# Altium integrated library NXP_60_26022015.IntLib: 1306 symbols (part 5 of 28)
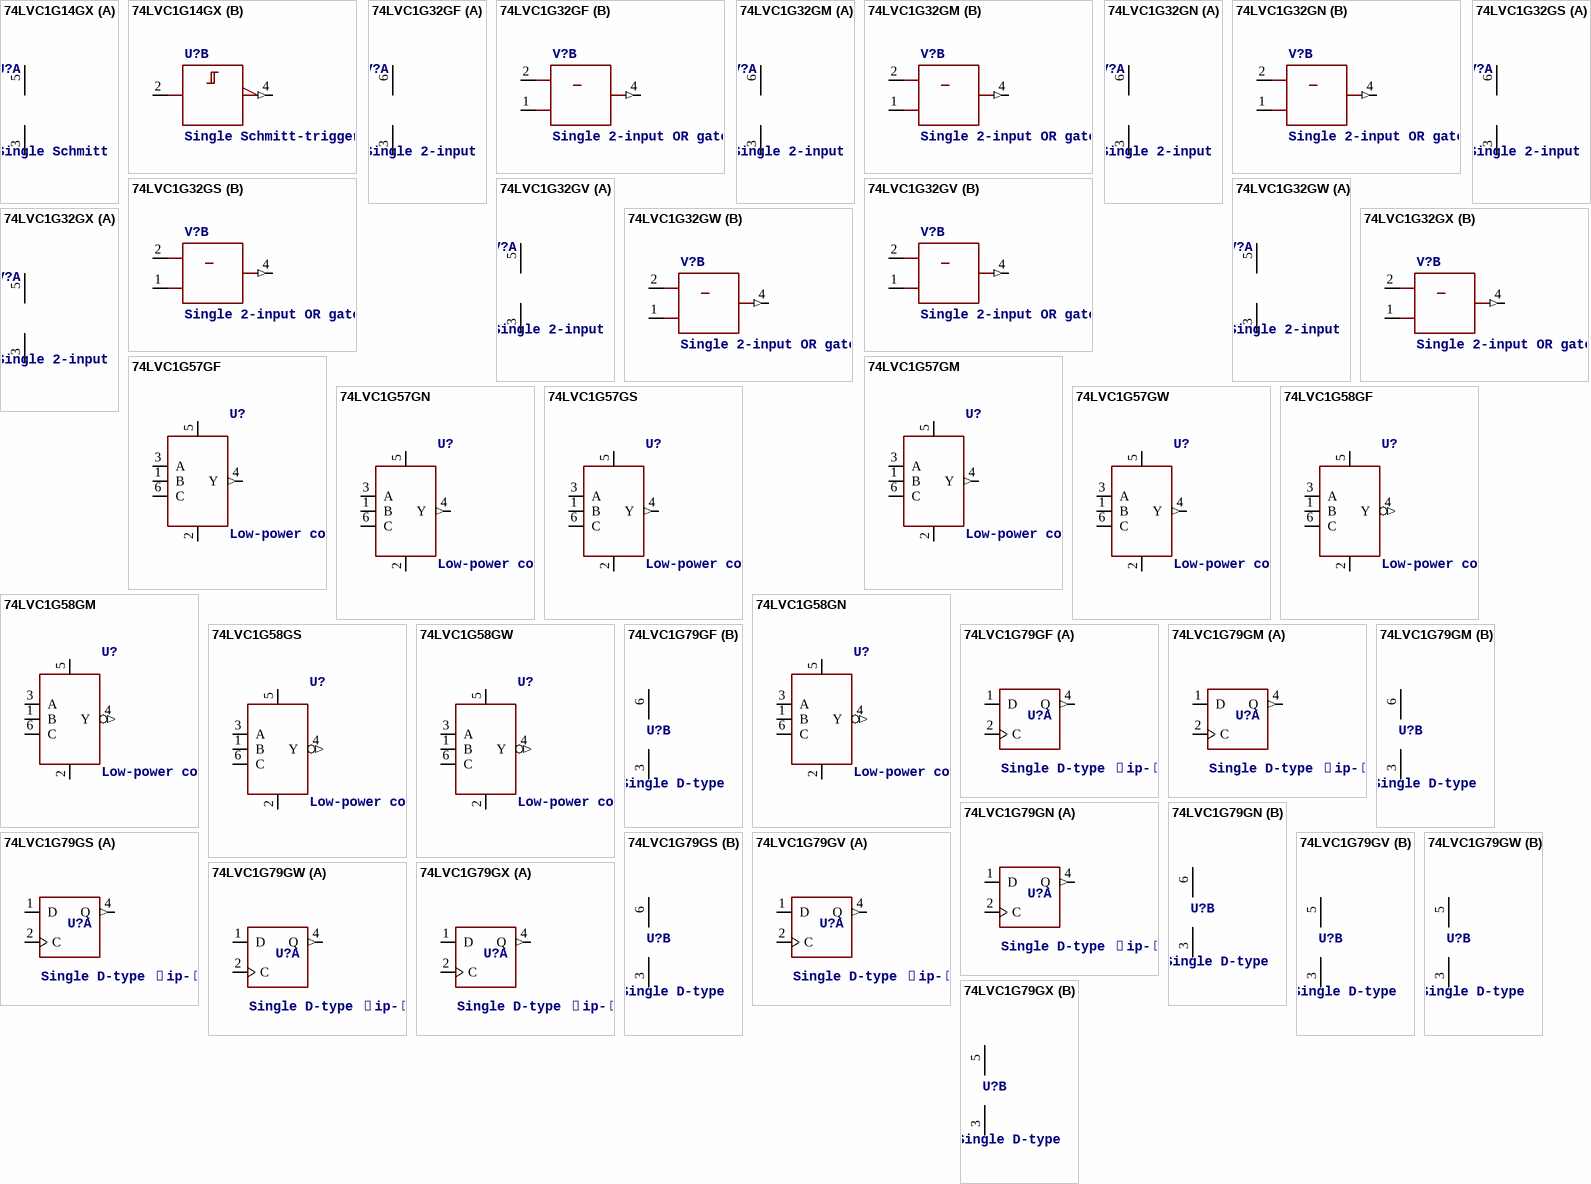
[diagram p189: symbols 74LVC1G14GX to 74LVC1G79GX]

## 74LVC1G58GS
designator U?, comment Low-power configurable multiple function gate The 74LVC1G58 provides configurable multiple functions. The output state is determined by eight patterns of 3-bit input. The user can choose the logic functions AND, OR, NAND, NOR, XOR, inverter and buffer. All inputs can be connected to VCC or GND. Inputs can be driven from either 3.3 V or 5 V devices. This feature allows the use of this device in a mixed 3.3 V and 5 V environment. This device is fully specified for partial power-down applications using IOFF. The IOFF circuitry disables the output, preventing the damaging backflow current through the device when it is powered down. All inputs (A, B and C) are Schmitt trigger inputs. They are capable of transforming slowly changing input signals into sharply defined, jitter-free output signals.   AAL Eindhoven MK
12NC: 9352 928 68132
footprint SOT1202
pins: 1 B, 2 GND (power), 3 A, 4 Y (out), 5 VCC (power), 6 C

## 74LVC1G58GW
designator U?, comment Low-power configurable multiple function gate The 74LVC1G58 provides configurable multiple functions. The output state is determined by eight patterns of 3-bit input. The user can choose the logic functions AND, OR, NAND, NOR, XOR, inverter and buffer. All inputs can be connected to VCC or GND. Inputs can be driven from either 3.3 V or 5 V devices. This feature allows the use of this device in a mixed 3.3 V and 5 V environment. This device is fully specified for partial power-down applications using IOFF. The IOFF circuitry disables the output, preventing the damaging backflow current through the device when it is powered down. All inputs (A, B and C) are Schmitt trigger inputs. They are capable of transforming slowly changing input signals into sharply defined, jitter-free output signals.   AAL Eindhoven MK
12NC: 9352 799 59125
footprint SOT363
pins: 1 B, 2 GND (power), 3 A, 4 Y (out), 5 VCC (power), 6 C

## 74LVC1G79GF
designator U?, comment Single D-type ﬂip-ﬂop; positive-edge trigger The 74LVC1G79 provides a single positive-edge triggered D-type flip-flop. Information on the data input is transferred to the Q-output on the LOW-to-HIGH transition of the clock pulse. The D-input must be stable one set-up time prior to the LOW-to-HIGH clock transition for predictable operation. Inputs can be driven from either 3.3 V or 5 V devices. This feature allows the use of this device in a mixed 3.3 V and 5 V environment. This device is fully specified for partial power-down applications using IOFF. The IOFF circuitry disables the output, preventing the damaging backflow current through the device when it is powered down.    AAL Eindhoven MK
footprint SOT891
part A pins: 1 D, 2 C, 4 Q (out)
part B pins: 3 GND (power), 6 VCC (power)

## 74LVC1G79GM
designator U?, comment Single D-type ﬂip-ﬂop; positive-edge trigger The 74LVC1G79 provides a single positive-edge triggered D-type flip-flop. Information on the data input is transferred to the Q-output on the LOW-to-HIGH transition of the clock pulse. The D-input must be stable one set-up time prior to the LOW-to-HIGH clock transition for predictable operation. Inputs can be driven from either 3.3 V or 5 V devices. This feature allows the use of this device in a mixed 3.3 V and 5 V environment. This device is fully specified for partial power-down applications using IOFF. The IOFF circuitry disables the output, preventing the damaging backflow current through the device when it is powered down.    AAL Eindhoven MK
footprint SOT886
part A pins: 1 D, 2 C, 4 Q (out)
part B pins: 3 GND (power), 6 VCC (power)

## 74LVC1G79GN
designator U?, comment Single D-type ﬂip-ﬂop; positive-edge trigger The 74LVC1G79 provides a single positive-edge triggered D-type flip-flop. Information on the data input is transferred to the Q-output on the LOW-to-HIGH transition of the clock pulse. The D-input must be stable one set-up time prior to the LOW-to-HIGH clock transition for predictable operation. Inputs can be driven from either 3.3 V or 5 V devices. This feature allows the use of this device in a mixed 3.3 V and 5 V environment. This device is fully specified for partial power-down applications using IOFF. The IOFF circuitry disables the output, preventing the damaging backflow current through the device when it is powered down.    AAL Eindhoven MK
footprint SOT1115
part A pins: 1 D, 2 C, 4 Q (out)
part B pins: 3 GND (power), 6 VCC (power)

## 74LVC1G79GS
designator U?, comment Single D-type ﬂip-ﬂop; positive-edge trigger The 74LVC1G79 provides a single positive-edge triggered D-type flip-flop. Information on the data input is transferred to the Q-output on the LOW-to-HIGH transition of the clock pulse. The D-input must be stable one set-up time prior to the LOW-to-HIGH clock transition for predictable operation. Inputs can be driven from either 3.3 V or 5 V devices. This feature allows the use of this device in a mixed 3.3 V and 5 V environment. This device is fully specified for partial power-down applications using IOFF. The IOFF circuitry disables the output, preventing the damaging backflow current through the device when it is powered down.    AAL Eindhoven MK
footprint SOT1202
part A pins: 1 D, 2 C, 4 Q (out)
part B pins: 3 GND (power), 6 VCC (power)

## 74LVC1G79GV
designator U?, comment Single D-type ﬂip-ﬂop; positive-edge trigger The 74LVC1G79 provides a single positive-edge triggered D-type flip-flop. Information on the data input is transferred to the Q-output on the LOW-to-HIGH transition of the clock pulse. The D-input must be stable one set-up time prior to the LOW-to-HIGH clock transition for predictable operation. Inputs can be driven from either 3.3 V or 5 V devices. This feature allows the use of this device in a mixed 3.3 V and 5 V environment. This device is fully specified for partial power-down applications using IOFF. The IOFF circuitry disables the output, preventing the damaging backflow current through the device when it is powered down.    AAL Eindhoven MK
footprint SOT753
part A pins: 1 D, 2 C, 4 Q (out)
part B pins: 3 GND (power), 5 VCC (power)

## 74LVC1G79GW
designator U?, comment Single D-type ﬂip-ﬂop; positive-edge trigger The 74LVC1G79 provides a single positive-edge triggered D-type flip-flop. Information on the data input is transferred to the Q-output on the LOW-to-HIGH transition of the clock pulse. The D-input must be stable one set-up time prior to the LOW-to-HIGH clock transition for predictable operation. Inputs can be driven from either 3.3 V or 5 V devices. This feature allows the use of this device in a mixed 3.3 V and 5 V environment. This device is fully specified for partial power-down applications using IOFF. The IOFF circuitry disables the output, preventing the damaging backflow current through the device when it is powered down.    AAL Eindhoven MK
footprint SOT353-1
part A pins: 1 D, 2 C, 4 Q (out)
part B pins: 3 GND (power), 5 VCC (power)

## 74LVC1G79GX
designator U?, comment Single D-type ﬂip-ﬂop; positive-edge trigger The 74LVC1G79 provides a single positive-edge triggered D-type flip-flop. Information on the data input is transferred to the Q-output on the LOW-to-HIGH transition of the clock pulse. The D-input must be stable one set-up time prior to the LOW-to-HIGH clock transition for predictable operation. Inputs can be driven from either 3.3 V or 5 V devices. This feature allows the use of this device in a mixed 3.3 V and 5 V environment. This device is fully specified for partial power-down applications using IOFF. The IOFF circuitry disables the output, preventing the damaging backflow current through the device when it is powered down.    AAL Eindhoven MK
footprint SOT1226
part A pins: 1 D, 2 C, 4 Q (out)
part B pins: 3 GND (power), 5 VCC (power)

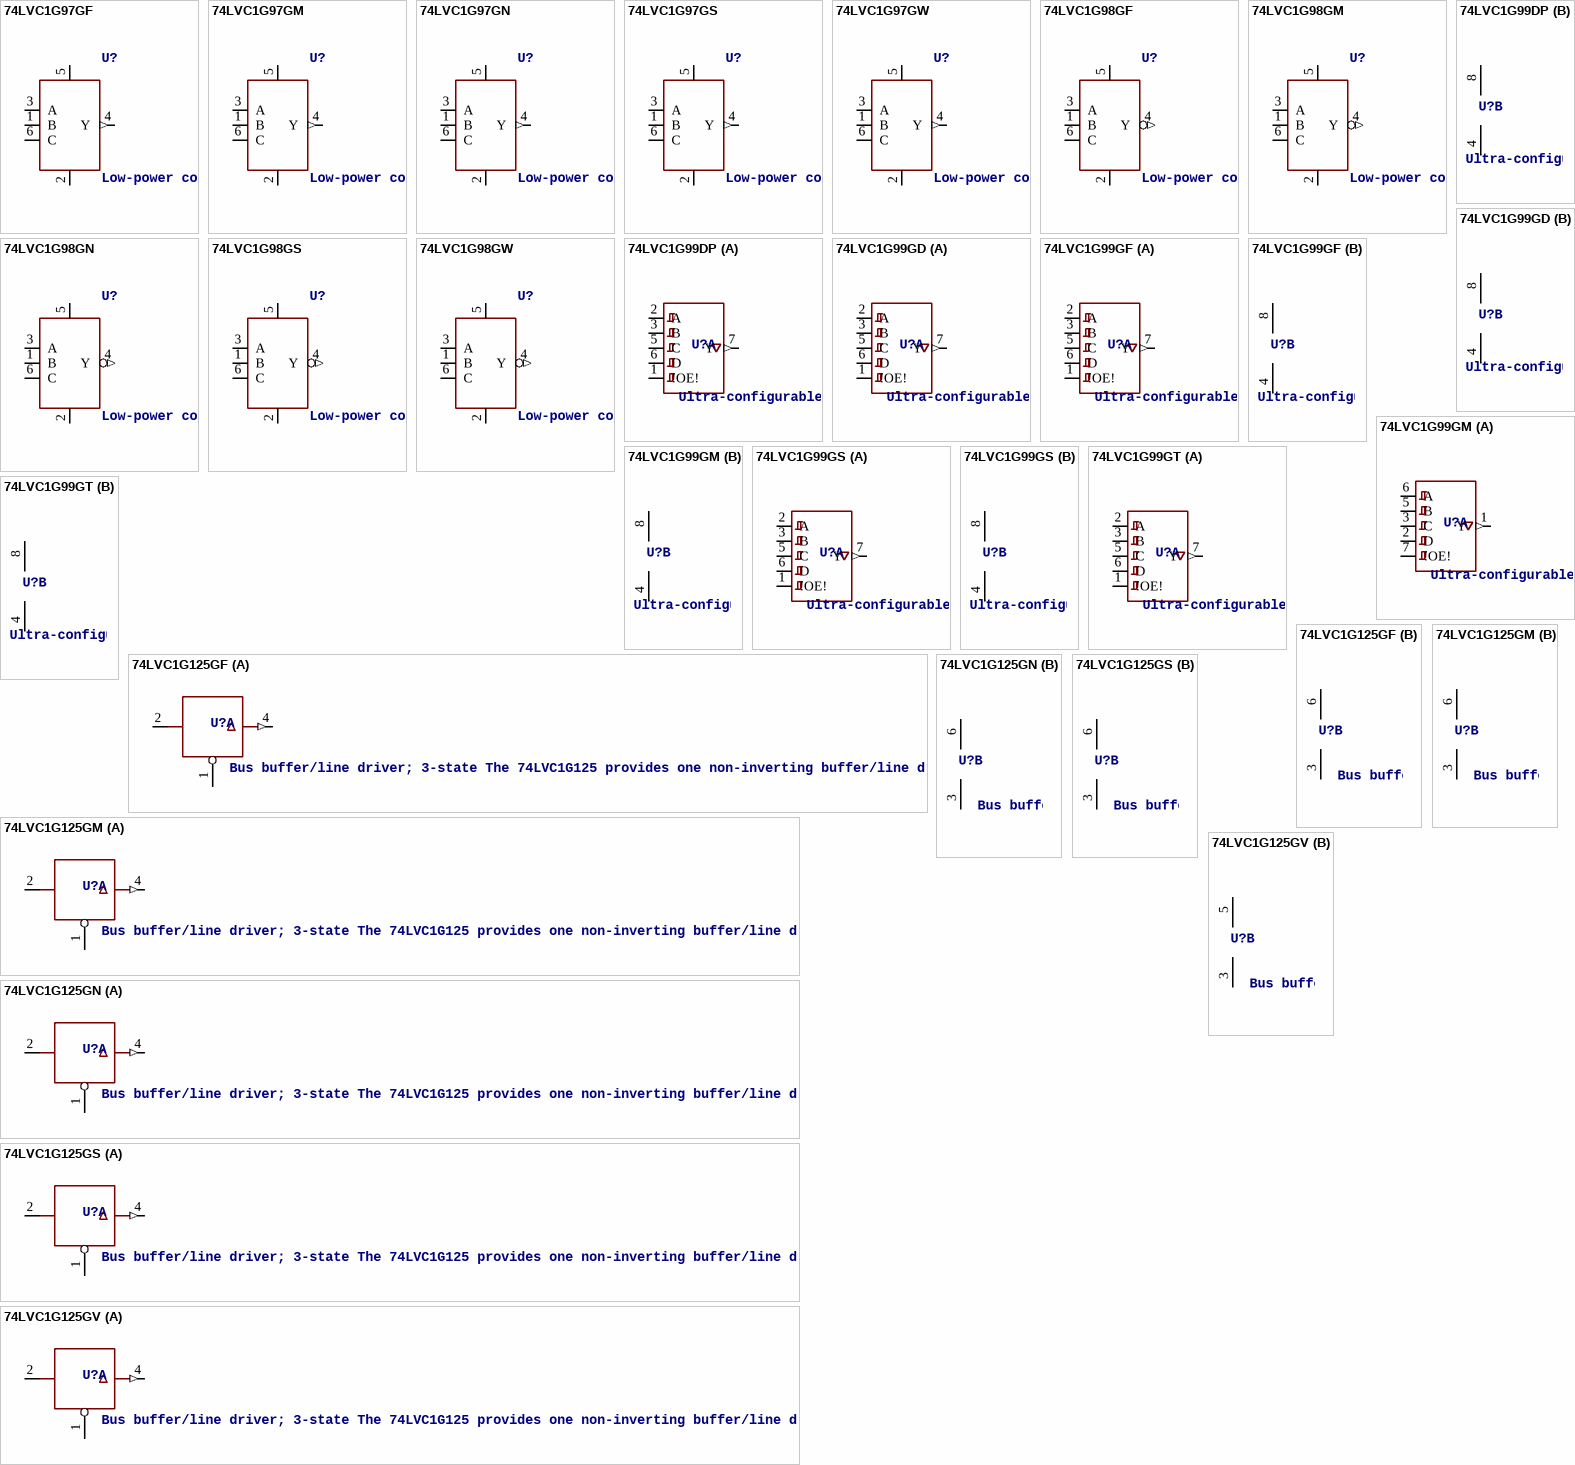
[diagram p22: symbols 74LVC1G97GF to 74LVC1G125GV]

## 74LVC1G97GF
designator U?, comment Low-power configurable gate The 74LVC1G98 is a configurable multiple function gate with Schmitt-trigger inputs. The device can be configured as any of the following logic functions MUX, AND, OR, NAND, NOR, inverter and buffer; using the 3-bit input. All inputs can be connected to VCC or GND. Inputs can be driven from either 3.3 V or 5 V devices. This feature allows the use of these devices as translators in mixed 3.3 V and 5 V environments. This device is fully specified for partial power-down applications using IOFF. The IOFF circuitry disables the output, preventing the damaging backflow current through the device when it is powered down.   AAL Eindhoven MK
12NC: 9352 931 85132
footprint SOT891
pins: 1 B, 2 GND (power), 3 A, 4 Y (out), 5 VCC (power), 6 C

## 74LVC1G97GM
designator U?, comment Low-power configurable gate The 74LVC1G98 is a configurable multiple function gate with Schmitt-trigger inputs. The device can be configured as any of the following logic functions MUX, AND, OR, NAND, NOR, inverter and buffer; using the 3-bit input. All inputs can be connected to VCC or GND. Inputs can be driven from either 3.3 V or 5 V devices. This feature allows the use of these devices as translators in mixed 3.3 V and 5 V environments. This device is fully specified for partial power-down applications using IOFF. The IOFF circuitry disables the output, preventing the damaging backflow current through the device when it is powered down.   AAL Eindhoven MK
12NC: 9352 931 86132
footprint SOT886
pins: 1 B, 2 GND (power), 3 A, 4 Y (out), 5 VCC (power), 6 C

## 74LVC1G97GN
designator U?, comment Low-power configurable gate The 74LVC1G98 is a configurable multiple function gate with Schmitt-trigger inputs. The device can be configured as any of the following logic functions MUX, AND, OR, NAND, NOR, inverter and buffer; using the 3-bit input. All inputs can be connected to VCC or GND. Inputs can be driven from either 3.3 V or 5 V devices. This feature allows the use of these devices as translators in mixed 3.3 V and 5 V environments. This device is fully specified for partial power-down applications using IOFF. The IOFF circuitry disables the output, preventing the damaging backflow current through the device when it is powered down.   AAL Eindhoven MK
I2C: 9352 931 87132
footprint SOT1115
pins: 1 B, 2 GND (power), 3 A, 4 Y (out), 5 VCC (power), 6 C

## 74LVC1G97GS
designator U?, comment Low-power configurable gate The 74LVC1G98 is a configurable multiple function gate with Schmitt-trigger inputs. The device can be configured as any of the following logic functions MUX, AND, OR, NAND, NOR, inverter and buffer; using the 3-bit input. All inputs can be connected to VCC or GND. Inputs can be driven from either 3.3 V or 5 V devices. This feature allows the use of these devices as translators in mixed 3.3 V and 5 V environments. This device is fully specified for partial power-down applications using IOFF. The IOFF circuitry disables the output, preventing the damaging backflow current through the device when it is powered down.   AAL Eindhoven MK
12NC: 9352 931 88132
footprint SOT1202
pins: 1 B, 2 GND (power), 3 A, 4 Y (out), 5 VCC (power), 6 C

## 74LVC1G97GW
designator U?, comment Low-power configurable gate The 74LVC1G98 is a configurable multiple function gate with Schmitt-trigger inputs. The device can be configured as any of the following logic functions MUX, AND, OR, NAND, NOR, inverter and buffer; using the 3-bit input. All inputs can be connected to VCC or GND. Inputs can be driven from either 3.3 V or 5 V devices. This feature allows the use of these devices as translators in mixed 3.3 V and 5 V environments. This device is fully specified for partial power-down applications using IOFF. The IOFF circuitry disables the output, preventing the damaging backflow current through the device when it is powered down.   AAL Eindhoven MK
12NC: 9352 931 91125
footprint SOT363
pins: 1 B, 2 GND (power), 3 A, 4 Y (out), 5 VCC (power), 6 C

## 74LVC1G98GF
designator U?, comment Low-power configurable gate The 74AUP1G98 provides configurable multiple functions. The output state is determined by eight patterns of 3-bit input. The user can choose the logic functions MUX, AND, OR, NAND, NOR, inverter and buffer. All inputs can be connected to VCC or GND. This device ensures a very low static and dynamic power consumption across the entire VCC range from 0.8 V to 3.6 V. This device is fully specified for partial power-down applications using IOFF. The IOFF circuitry disables the output, preventing the damaging backflow current through the device when it is powered down. The 74AUP1G98 has Schmitt trigger inputs making it capable of transforming slowly changing input signals into sharply defined, jitter-free output signals. The inputs switch at different points for positive and negative-going signals. The difference between the positive voltage VT+ and the negative voltage VT is defined as the input hysteresis voltage VH.   AAL Eindhoven MK
12NC: 9352 931 92132
footprint SOT891
pins: 1 B, 2 GND (power), 3 A, 4 Y (out), 5 VCC (power), 6 C

## 74LVC1G98GM
designator U?, comment Low-power configurable gate The 74AUP1G98 provides configurable multiple functions. The output state is determined by eight patterns of 3-bit input. The user can choose the logic functions MUX, AND, OR, NAND, NOR, inverter and buffer. All inputs can be connected to VCC or GND. This device ensures a very low static and dynamic power consumption across the entire VCC range from 0.8 V to 3.6 V. This device is fully specified for partial power-down applications using IOFF. The IOFF circuitry disables the output, preventing the damaging backflow current through the device when it is powered down. The 74AUP1G98 has Schmitt trigger inputs making it capable of transforming slowly changing input signals into sharply defined, jitter-free output signals. The inputs switch at different points for positive and negative-going signals. The difference between the positive voltage VT+ and the negative voltage VT is defined as the input hysteresis voltage VH.   AAL Eindhoven MK
12NC: 9352 931 93132
footprint SOT886
pins: 1 B, 2 GND (power), 3 A, 4 Y (out), 5 VCC (power), 6 C

## 74LVC1G98GN
designator U?, comment Low-power configurable gate The 74AUP1G98 provides configurable multiple functions. The output state is determined by eight patterns of 3-bit input. The user can choose the logic functions MUX, AND, OR, NAND, NOR, inverter and buffer. All inputs can be connected to VCC or GND. This device ensures a very low static and dynamic power consumption across the entire VCC range from 0.8 V to 3.6 V. This device is fully specified for partial power-down applications using IOFF. The IOFF circuitry disables the output, preventing the damaging backflow current through the device when it is powered down. The 74AUP1G98 has Schmitt trigger inputs making it capable of transforming slowly changing input signals into sharply defined, jitter-free output signals. The inputs switch at different points for positive and negative-going signals. The difference between the positive voltage VT+ and the negative voltage VT is defined as the input hysteresis voltage VH.   AAL Eindhoven MK
I2C: 9352 931 94132
footprint SOT1115
pins: 1 B, 2 GND (power), 3 A, 4 Y (out), 5 VCC (power), 6 C

## 74LVC1G98GS
designator U?, comment Low-power configurable gate The 74AUP1G98 provides configurable multiple functions. The output state is determined by eight patterns of 3-bit input. The user can choose the logic functions MUX, AND, OR, NAND, NOR, inverter and buffer. All inputs can be connected to VCC or GND. This device ensures a very low static and dynamic power consumption across the entire VCC range from 0.8 V to 3.6 V. This device is fully specified for partial power-down applications using IOFF. The IOFF circuitry disables the output, preventing the damaging backflow current through the device when it is powered down. The 74AUP1G98 has Schmitt trigger inputs making it capable of transforming slowly changing input signals into sharply defined, jitter-free output signals. The inputs switch at different points for positive and negative-going signals. The difference between the positive voltage VT+ and the negative voltage VT is defined as the input hysteresis voltage VH.   AAL Eindhoven MK
12NC: 9352 931 95132
footprint SOT1202
pins: 1 B, 2 GND (power), 3 A, 4 Y (out), 5 VCC (power), 6 C

## 74LVC1G98GW
designator U?, comment Low-power configurable gate The 74AUP1G98 provides configurable multiple functions. The output state is determined by eight patterns of 3-bit input. The user can choose the logic functions MUX, AND, OR, NAND, NOR, inverter and buffer. All inputs can be connected to VCC or GND. This device ensures a very low static and dynamic power consumption across the entire VCC range from 0.8 V to 3.6 V. This device is fully specified for partial power-down applications using IOFF. The IOFF circuitry disables the output, preventing the damaging backflow current through the device when it is powered down. The 74AUP1G98 has Schmitt trigger inputs making it capable of transforming slowly changing input signals into sharply defined, jitter-free output signals. The inputs switch at different points for positive and negative-going signals. The difference between the positive voltage VT+ and the negative voltage VT is defined as the input hysteresis voltage VH.   AAL Eindhoven MK
12NC: 9352 931 97125
footprint SOT363
pins: 1 B, 2 GND (power), 3 A, 4 Y (out), 5 VCC (power), 6 C

## 74LVC1G99DP
designator U?, comment Ultra-configurable multiple function gate; 3-state The 74LVC1G99 provides a low voltage, ultra-configurable, multiple function gate with 3-state output. The device can be configured as one of several logic functions including, AND, OR, NAND, NOR, XOR, XNOR, inverter, buffer and MUX. No external components are required to configure the device as all inputs can be connected directly to VCC or GND. The 3-state output is controlled by the output enable input (OE). A HIGH level at OE causes the output (Y) to assume a high-impedance OFF-state. When OE is LOW, the output state is determined by the signals applied to the Schmitt trigger inputs (A, B, C and D). Due to the use of Schmitt trigger inputs the device is tolerant of slowly changing input signals, transforming them into sharply defined, jitter free output signals. By eliminating leakage current paths to VCC and GND, the inputs and disabled output are also over-voltage tolerant, making the device suitable for mixed-voltage applications. This device is fully specified for partial power-down applications using IOFF. The IOFF circuitry disables the output, preventing the damaging backflow current through the device when it is powered down. The 74LVC1G99 is fully specified over the supply range from 1.65 V to 5.5 V.    AAL Eindhoven MK
footprint SOT505-2
part A pins: 1 !OE!, 2 A, 3 B, 5 C, 6 D, 7 Y (out)
part B pins: 4 GND (power), 8 VCC (power)

## 74LVC1G99GD
designator U?, comment Ultra-configurable multiple function gate; 3-state The 74LVC1G99 provides a low voltage, ultra-configurable, multiple function gate with 3-state output. The device can be configured as one of several logic functions including, AND, OR, NAND, NOR, XOR, XNOR, inverter, buffer and MUX. No external components are required to configure the device as all inputs can be connected directly to VCC or GND. The 3-state output is controlled by the output enable input (OE). A HIGH level at OE causes the output (Y) to assume a high-impedance OFF-state. When OE is LOW, the output state is determined by the signals applied to the Schmitt trigger inputs (A, B, C and D). Due to the use of Schmitt trigger inputs the device is tolerant of slowly changing input signals, transforming them into sharply defined, jitter free output signals. By eliminating leakage current paths to VCC and GND, the inputs and disabled output are also over-voltage tolerant, making the device suitable for mixed-voltage applications. This device is fully specified for partial power-down applications using IOFF. The IOFF circuitry disables the output, preventing the damaging backflow current through the device when it is powered down. The 74LVC1G99 is fully specified over the supply range from 1.65 V to 5.5 V.    AAL Eindhoven MK
footprint SOT996-2/3
part A pins: 1 !OE!, 2 A, 3 B, 5 C, 6 D, 7 Y (out)
part B pins: 4 GND (power), 8 VCC (power)

## 74LVC1G99GF
designator U?, comment Ultra-configurable multiple function gate; 3-state The 74LVC1G99 provides a low voltage, ultra-configurable, multiple function gate with 3-state output. The device can be configured as one of several logic functions including, AND, OR, NAND, NOR, XOR, XNOR, inverter, buffer and MUX. No external components are required to configure the device as all inputs can be connected directly to VCC or GND. The 3-state output is controlled by the output enable input (OE). A HIGH level at OE causes the output (Y) to assume a high-impedance OFF-state. When OE is LOW, the output state is determined by the signals applied to the Schmitt trigger inputs (A, B, C and D). Due to the use of Schmitt trigger inputs the device is tolerant of slowly changing input signals, transforming them into sharply defined, jitter free output signals. By eliminating leakage current paths to VCC and GND, the inputs and disabled output are also over-voltage tolerant, making the device suitable for mixed-voltage applications. This device is fully specified for partial power-down applications using IOFF. The IOFF circuitry disables the output, preventing the damaging backflow current through the device when it is powered down. The 74LVC1G99 is fully specified over the supply range from 1.65 V to 5.5 V.    AAL Eindhoven MK
footprint SOT1089-1
part A pins: 1 !OE!, 2 A, 3 B, 5 C, 6 D, 7 Y (out)
part B pins: 4 GND (power), 8 VCC (power)

## 74LVC1G99GM
designator U?, comment Ultra-configurable multiple function gate; 3-state The 74LVC1G99 provides a low voltage, ultra-configurable, multiple function gate with 3-state output. The device can be configured as one of several logic functions including, AND, OR, NAND, NOR, XOR, XNOR, inverter, buffer and MUX. No external components are required to configure the device as all inputs can be connected directly to VCC or GND. The 3-state output is controlled by the output enable input (OE). A HIGH level at OE causes the output (Y) to assume a high-impedance OFF-state. When OE is LOW, the output state is determined by the signals applied to the Schmitt trigger inputs (A, B, C and D). Due to the use of Schmitt trigger inputs the device is tolerant of slowly changing input signals, transforming them into sharply defined, jitter free output signals. By eliminating leakage current paths to VCC and GND, the inputs and disabled output are also over-voltage tolerant, making the device suitable for mixed-voltage applications. This device is fully specified for partial power-down applications using IOFF. The IOFF circuitry disables the output, preventing the damaging backflow current through the device when it is powered down. The 74LVC1G99 is fully specified over the supply range from 1.65 V to 5.5 V.    AAL Eindhoven MK
footprint SOT902-1/2/3
part A pins: 1 Y (out), 2 D, 3 C, 5 B, 6 A, 7 !OE!
part B pins: 4 GND (power), 8 VCC (power)

## 74LVC1G99GS
designator U?, comment Ultra-configurable multiple function gate; 3-state The 74LVC1G99 provides a low voltage, ultra-configurable, multiple function gate with 3-state output. The device can be configured as one of several logic functions including, AND, OR, NAND, NOR, XOR, XNOR, inverter, buffer and MUX. No external components are required to configure the device as all inputs can be connected directly to VCC or GND. The 3-state output is controlled by the output enable input (OE). A HIGH level at OE causes the output (Y) to assume a high-impedance OFF-state. When OE is LOW, the output state is determined by the signals applied to the Schmitt trigger inputs (A, B, C and D). Due to the use of Schmitt trigger inputs the device is tolerant of slowly changing input signals, transforming them into sharply defined, jitter free output signals. By eliminating leakage current paths to VCC and GND, the inputs and disabled output are also over-voltage tolerant, making the device suitable for mixed-voltage applications. This device is fully specified for partial power-down applications using IOFF. The IOFF circuitry disables the output, preventing the damaging backflow current through the device when it is powered down. The 74LVC1G99 is fully specified over the supply range from 1.65 V to 5.5 V.    AAL Eindhoven MK
footprint SOT1203
part A pins: 1 !OE!, 2 A, 3 B, 5 C, 6 D, 7 Y (out)
part B pins: 4 GND (power), 8 VCC (power)

## 74LVC1G99GT
designator U?, comment Ultra-configurable multiple function gate; 3-state The 74LVC1G99 provides a low voltage, ultra-configurable, multiple function gate with 3-state output. The device can be configured as one of several logic functions including, AND, OR, NAND, NOR, XOR, XNOR, inverter, buffer and MUX. No external components are required to configure the device as all inputs can be connected directly to VCC or GND. The 3-state output is controlled by the output enable input (OE). A HIGH level at OE causes the output (Y) to assume a high-impedance OFF-state. When OE is LOW, the output state is determined by the signals applied to the Schmitt trigger inputs (A, B, C and D). Due to the use of Schmitt trigger inputs the device is tolerant of slowly changing input signals, transforming them into sharply defined, jitter free output signals. By eliminating leakage current paths to VCC and GND, the inputs and disabled output are also over-voltage tolerant, making the device suitable for mixed-voltage applications. This device is fully specified for partial power-down applications using IOFF. The IOFF circuitry disables the output, preventing the damaging backflow current through the device when it is powered down. The 74LVC1G99 is fully specified over the supply range from 1.65 V to 5.5 V.    AAL Eindhoven MK
footprint SOT833-1
part A pins: 1 !OE!, 2 A, 3 B, 5 C, 6 D, 7 Y (out)
part B pins: 4 GND (power), 8 VCC (power)

## 74LVC1G125GF
designator U?, comment Bus buffer/line driver; 3-state The 74LVC1G125 provides one non-inverting buffer/line driver with 3-state output. The 3-state output is controlled by the output enable input (OE). A HIGH-level at pin OE causes the output to assume a high-impedance OFF-state. The input can be driven from either 3.3 V or 5 V devices. This feature allows the use of this device in a mixed 3.3 V and 5 V environment. This device is fully specified for partial power-down applications using IOFF. The IOFF circuitry disables the output, preventing the damaging backflow current through the device when it is powered down.    AAL Eindhoven MK
footprint SOT891
part A pins: 1 !OE, 2 A, 4 Y (out)
part B pins: 3 GND (power), 6 VCC (power)

## 74LVC1G125GM
designator U?, comment Bus buffer/line driver; 3-state The 74LVC1G125 provides one non-inverting buffer/line driver with 3-state output. The 3-state output is controlled by the output enable input (OE). A HIGH-level at pin OE causes the output to assume a high-impedance OFF-state. The input can be driven from either 3.3 V or 5 V devices. This feature allows the use of this device in a mixed 3.3 V and 5 V environment. This device is fully specified for partial power-down applications using IOFF. The IOFF circuitry disables the output, preventing the damaging backflow current through the device when it is powered down.    AAL Eindhoven MK
footprint SOT886
part A pins: 1 !OE, 2 A, 4 Y (out)
part B pins: 3 GND (power), 6 VCC (power)

## 74LVC1G125GN
designator U?, comment Bus buffer/line driver; 3-state The 74LVC1G125 provides one non-inverting buffer/line driver with 3-state output. The 3-state output is controlled by the output enable input (OE). A HIGH-level at pin OE causes the output to assume a high-impedance OFF-state. The input can be driven from either 3.3 V or 5 V devices. This feature allows the use of this device in a mixed 3.3 V and 5 V environment. This device is fully specified for partial power-down applications using IOFF. The IOFF circuitry disables the output, preventing the damaging backflow current through the device when it is powered down.    AAL Eindhoven MK
footprint SOT1115
part A pins: 1 !OE, 2 A, 4 Y (out)
part B pins: 3 GND (power), 6 VCC (power)

## 74LVC1G125GS
designator U?, comment Bus buffer/line driver; 3-state The 74LVC1G125 provides one non-inverting buffer/line driver with 3-state output. The 3-state output is controlled by the output enable input (OE). A HIGH-level at pin OE causes the output to assume a high-impedance OFF-state. The input can be driven from either 3.3 V or 5 V devices. This feature allows the use of this device in a mixed 3.3 V and 5 V environment. This device is fully specified for partial power-down applications using IOFF. The IOFF circuitry disables the output, preventing the damaging backflow current through the device when it is powered down.    AAL Eindhoven MK
footprint SOT1202
part A pins: 1 !OE, 2 A, 4 Y (out)
part B pins: 3 GND (power), 6 VCC (power)

## 74LVC1G125GV
designator U?, comment Bus buffer/line driver; 3-state The 74LVC1G125 provides one non-inverting buffer/line driver with 3-state output. The 3-state output is controlled by the output enable input (OE). A HIGH-level at pin OE causes the output to assume a high-impedance OFF-state. The input can be driven from either 3.3 V or 5 V devices. This feature allows the use of this device in a mixed 3.3 V and 5 V environment. This device is fully specified for partial power-down applications using IOFF. The IOFF circuitry disables the output, preventing the damaging backflow current through the device when it is powered down.    AAL Eindhoven MK
footprint SOT753
part A pins: 1 !OE, 2 A, 4 Y (out)
part B pins: 3 GND (power), 5 VCC (power)

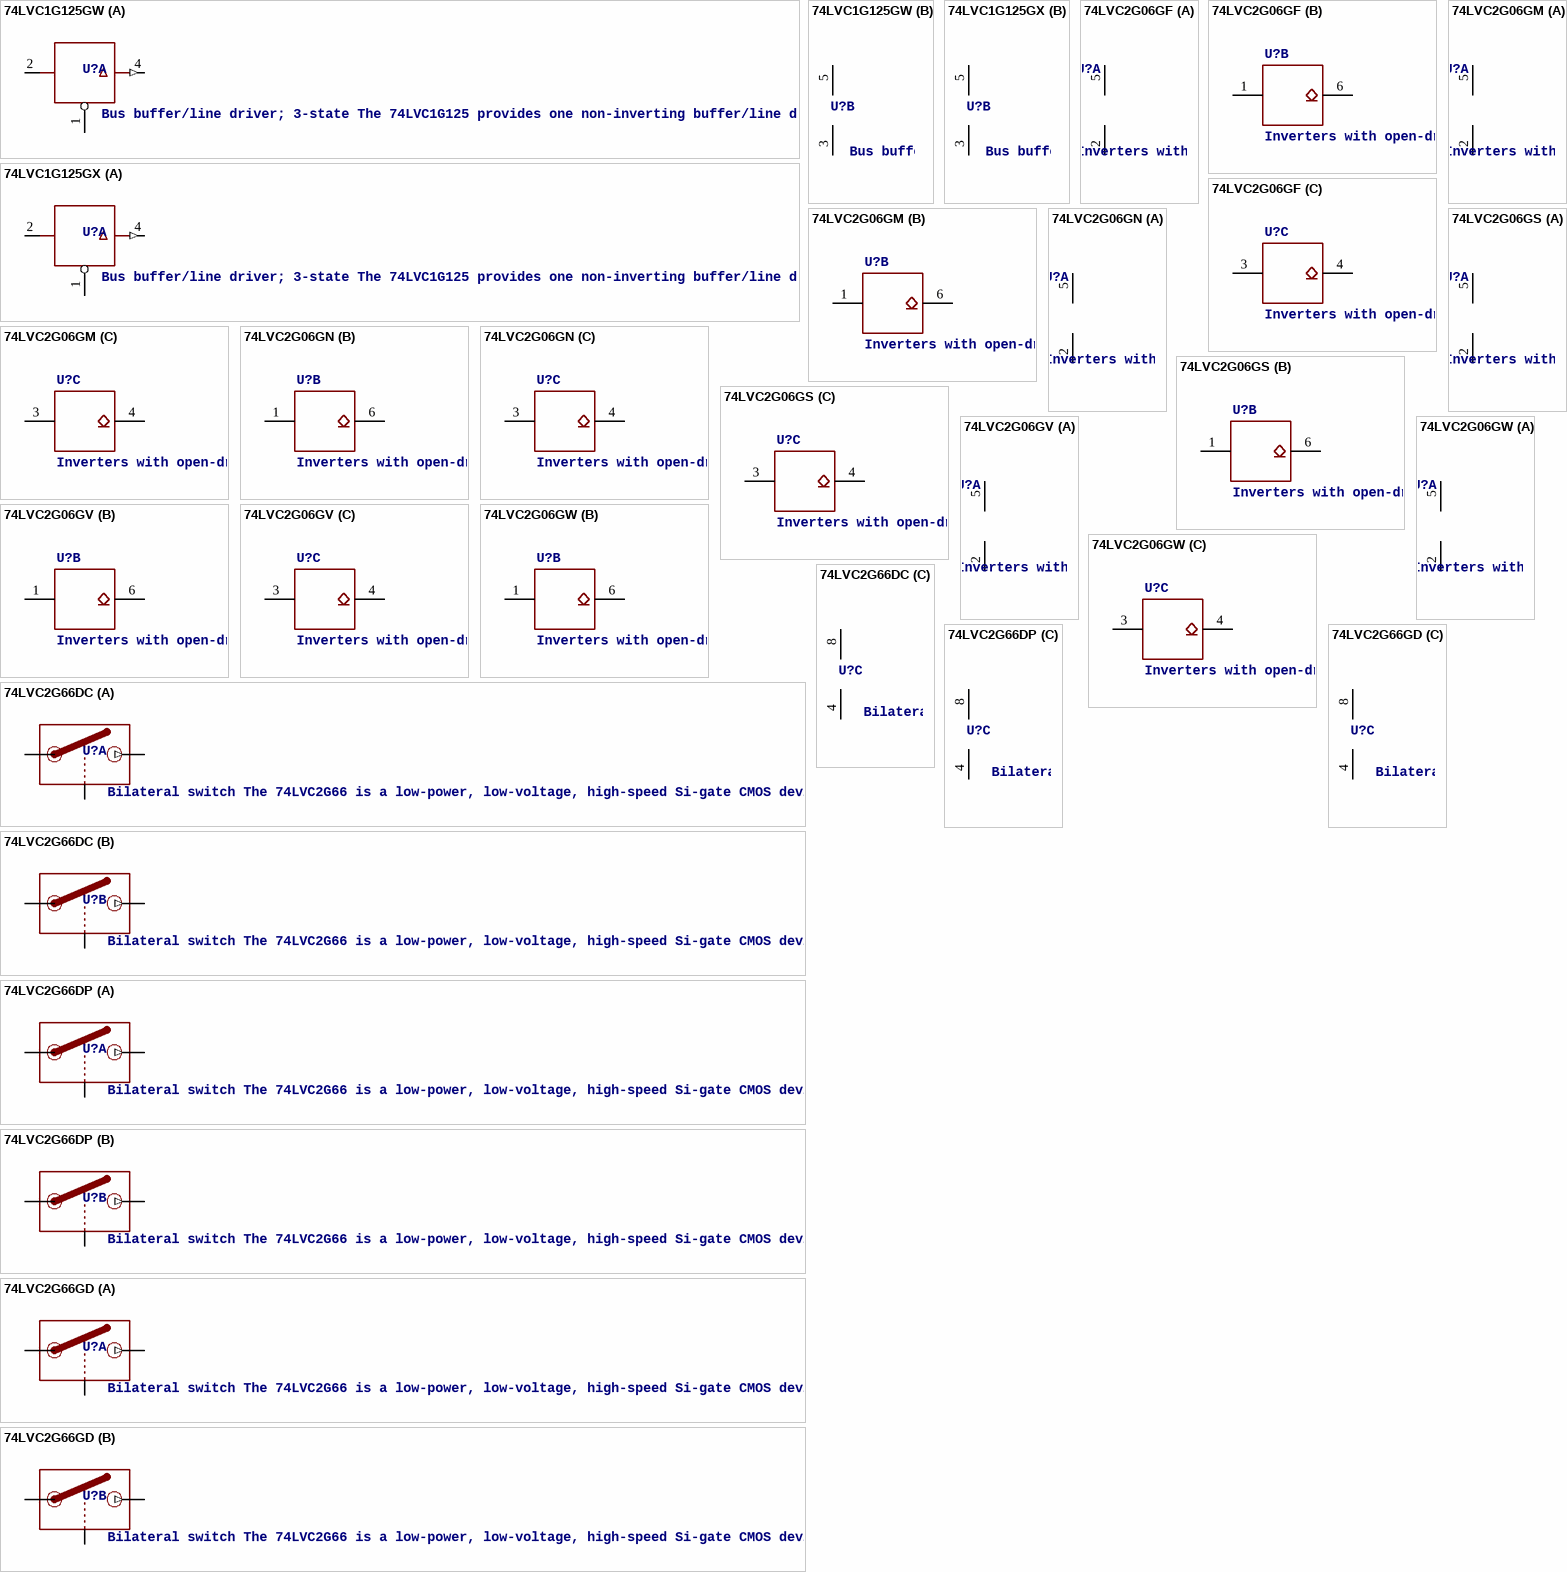
[diagram p23: symbols 74LVC1G125GW to 74LVC2G66GD]

## 74LVC1G125GW
designator U?, comment Bus buffer/line driver; 3-state The 74LVC1G125 provides one non-inverting buffer/line driver with 3-state output. The 3-state output is controlled by the output enable input (OE). A HIGH-level at pin OE causes the output to assume a high-impedance OFF-state. The input can be driven from either 3.3 V or 5 V devices. This feature allows the use of this device in a mixed 3.3 V and 5 V environment. This device is fully specified for partial power-down applications using IOFF. The IOFF circuitry disables the output, preventing the damaging backflow current through the device when it is powered down.    AAL Eindhoven MK
footprint SOT353-1
part A pins: 1 !OE, 2 A, 4 Y (out)
part B pins: 3 GND (power), 5 VCC (power)

## 74LVC1G125GX
designator U?, comment Bus buffer/line driver; 3-state The 74LVC1G125 provides one non-inverting buffer/line driver with 3-state output. The 3-state output is controlled by the output enable input (OE). A HIGH-level at pin OE causes the output to assume a high-impedance OFF-state. The input can be driven from either 3.3 V or 5 V devices. This feature allows the use of this device in a mixed 3.3 V and 5 V environment. This device is fully specified for partial power-down applications using IOFF. The IOFF circuitry disables the output, preventing the damaging backflow current through the device when it is powered down.    AAL Eindhoven MK
footprint SOT1226
part A pins: 1 !OE, 2 A, 4 Y (out)
part B pins: 3 GND (power), 5 VCC (power)

## 74LVC2G06GF
designator U?, comment Inverters with open-drain outputs The 74LVC2G06 provides two inverting buffers. The output of this device is an open drain and can be connected to other open-drain outputs to implement active-LOW wired-OR or active-HIGH wired-AND functions. Input can be driven from either 3.3 V or 5 V devices. This feature allows the use of this device in a mixed 3.3 V and 5 V environment. Schmitt trigger action at all inputs makes the circuit tolerant for slower input rise and fall time. This device is fully specified for partial power-down applications using IOFF. The IOFF circuitry disables the output, preventing the damaging backflow current through the device when it is powered down.   AAL Eindhoven MK
12NC: 9352 824 31132
footprint SOT891
part A pins: 2 GND (power), 5 VCC (power)
part B pins: 1 A, 6 Y (oc)
part C pins: 3 A, 4 Y (oc)

## 74LVC2G06GM
designator U?, comment Inverters with open-drain outputs The 74LVC2G06 provides two inverting buffers. The output of this device is an open drain and can be connected to other open-drain outputs to implement active-LOW wired-OR or active-HIGH wired-AND functions. Input can be driven from either 3.3 V or 5 V devices. This feature allows the use of this device in a mixed 3.3 V and 5 V environment. Schmitt trigger action at all inputs makes the circuit tolerant for slower input rise and fall time. This device is fully specified for partial power-down applications using IOFF. The IOFF circuitry disables the output, preventing the damaging backflow current through the device when it is powered down.   AAL Eindhoven MK
12NC: 9352 771 68132
footprint SOT886
part A pins: 2 GND (power), 5 VCC (power)
part B pins: 1 A, 6 Y (oc)
part C pins: 3 A, 4 Y (oc)

## 74LVC2G06GN
designator U?, comment Inverters with open-drain outputs The 74LVC2G06 provides two inverting buffers. The output of this device is an open drain and can be connected to other open-drain outputs to implement active-LOW wired-OR or active-HIGH wired-AND functions. Input can be driven from either 3.3 V or 5 V devices. This feature allows the use of this device in a mixed 3.3 V and 5 V environment. Schmitt trigger action at all inputs makes the circuit tolerant for slower input rise and fall time. This device is fully specified for partial power-down applications using IOFF. The IOFF circuitry disables the output, preventing the damaging backflow current through the device when it is powered down.   AAL Eindhoven MK
12NC: 9352 917 99132
footprint SOT1115
part A pins: 2 GND (power), 5 VCC (power)
part B pins: 1 A, 6 Y (oc)
part C pins: 3 A, 4 Y (oc)

## 74LVC2G06GS
designator U?, comment Inverters with open-drain outputs The 74LVC2G06 provides two inverting buffers. The output of this device is an open drain and can be connected to other open-drain outputs to implement active-LOW wired-OR or active-HIGH wired-AND functions. Input can be driven from either 3.3 V or 5 V devices. This feature allows the use of this device in a mixed 3.3 V and 5 V environment. Schmitt trigger action at all inputs makes the circuit tolerant for slower input rise and fall time. This device is fully specified for partial power-down applications using IOFF. The IOFF circuitry disables the output, preventing the damaging backflow current through the device when it is powered down.   AAL Eindhoven MK
12NC: 9352 929 27132
footprint SOT1202
part A pins: 2 GND (power), 5 VCC (power)
part B pins: 1 A, 6 Y (oc)
part C pins: 3 A, 4 Y (oc)

## 74LVC2G06GV
designator U?, comment Inverters with open-drain outputs The 74LVC2G06 provides two inverting buffers. The output of this device is an open drain and can be connected to other open-drain outputs to implement active-LOW wired-OR or active-HIGH wired-AND functions. Input can be driven from either 3.3 V or 5 V devices. This feature allows the use of this device in a mixed 3.3 V and 5 V environment. Schmitt trigger action at all inputs makes the circuit tolerant for slower input rise and fall time. This device is fully specified for partial power-down applications using IOFF. The IOFF circuitry disables the output, preventing the damaging backflow current through the device when it is powered down.   AAL Eindhoven MK
12NC: 9352 738 81125
footprint SOT457
part A pins: 2 GND (power), 5 VCC (power)
part B pins: 1 A, 6 Y (oc)
part C pins: 3 A, 4 Y (oc)

## 74LVC2G06GW
designator U?, comment Inverters with open-drain outputs The 74LVC2G06 provides two inverting buffers. The output of this device is an open drain and can be connected to other open-drain outputs to implement active-LOW wired-OR or active-HIGH wired-AND functions. Input can be driven from either 3.3 V or 5 V devices. This feature allows the use of this device in a mixed 3.3 V and 5 V environment. Schmitt trigger action at all inputs makes the circuit tolerant for slower input rise and fall time. This device is fully specified for partial power-down applications using IOFF. The IOFF circuitry disables the output, preventing the damaging backflow current through the device when it is powered down.   AAL Eindhoven MK
12NC: 9352 738 82125
footprint SOT363
part A pins: 2 GND (power), 5 VCC (power)
part B pins: 1 A, 6 Y (oc)
part C pins: 3 A, 4 Y (oc)

## 74LVC2G66DC
designator U?, comment Bilateral switch The 74LVC2G66 is a low-power, low-voltage, high-speed Si-gate CMOS device. The 74LVC2G66 provides two single pole, single-throw analog switch functions. Each switch has two input/output terminals (nY and nZ) and an active HIGH enable input (nE). When nE is LOW, the analog switch is turned off. Schmitt trigger action at the enable inputs makes the circuit tolerant of slower input rise and fall times across the entire VCC range from 1.65 V to 5.5 V.    AAL Eindhoven MK
footprint SOT765
part A pins: 1 Y, 2 Z (out), 7 EN
part B pins: 3 EN, 5 Y, 6 Z (out)
part C pins: 4 GND (power), 8 VCC (power)

## 74LVC2G66DP
designator U?, comment Bilateral switch The 74LVC2G66 is a low-power, low-voltage, high-speed Si-gate CMOS device. The 74LVC2G66 provides two single pole, single-throw analog switch functions. Each switch has two input/output terminals (nY and nZ) and an active HIGH enable input (nE). When nE is LOW, the analog switch is turned off. Schmitt trigger action at the enable inputs makes the circuit tolerant of slower input rise and fall times across the entire VCC range from 1.65 V to 5.5 V.    AAL Eindhoven MK
footprint SOT505-2
part A pins: 1 Y, 2 Z (out), 7 EN
part B pins: 3 EN, 5 Y, 6 Z (out)
part C pins: 4 GND (power), 8 VCC (power)

## 74LVC2G66GD
designator U?, comment Bilateral switch The 74LVC2G66 is a low-power, low-voltage, high-speed Si-gate CMOS device. The 74LVC2G66 provides two single pole, single-throw analog switch functions. Each switch has two input/output terminals (nY and nZ) and an active HIGH enable input (nE). When nE is LOW, the analog switch is turned off. Schmitt trigger action at the enable inputs makes the circuit tolerant of slower input rise and fall times across the entire VCC range from 1.65 V to 5.5 V.    AAL Eindhoven MK
footprint SOT996-2/3
part A pins: 1 Y, 2 Z (out), 7 EN
part B pins: 3 EN, 5 Y, 6 Z (out)
part C pins: 4 GND (power), 8 VCC (power)

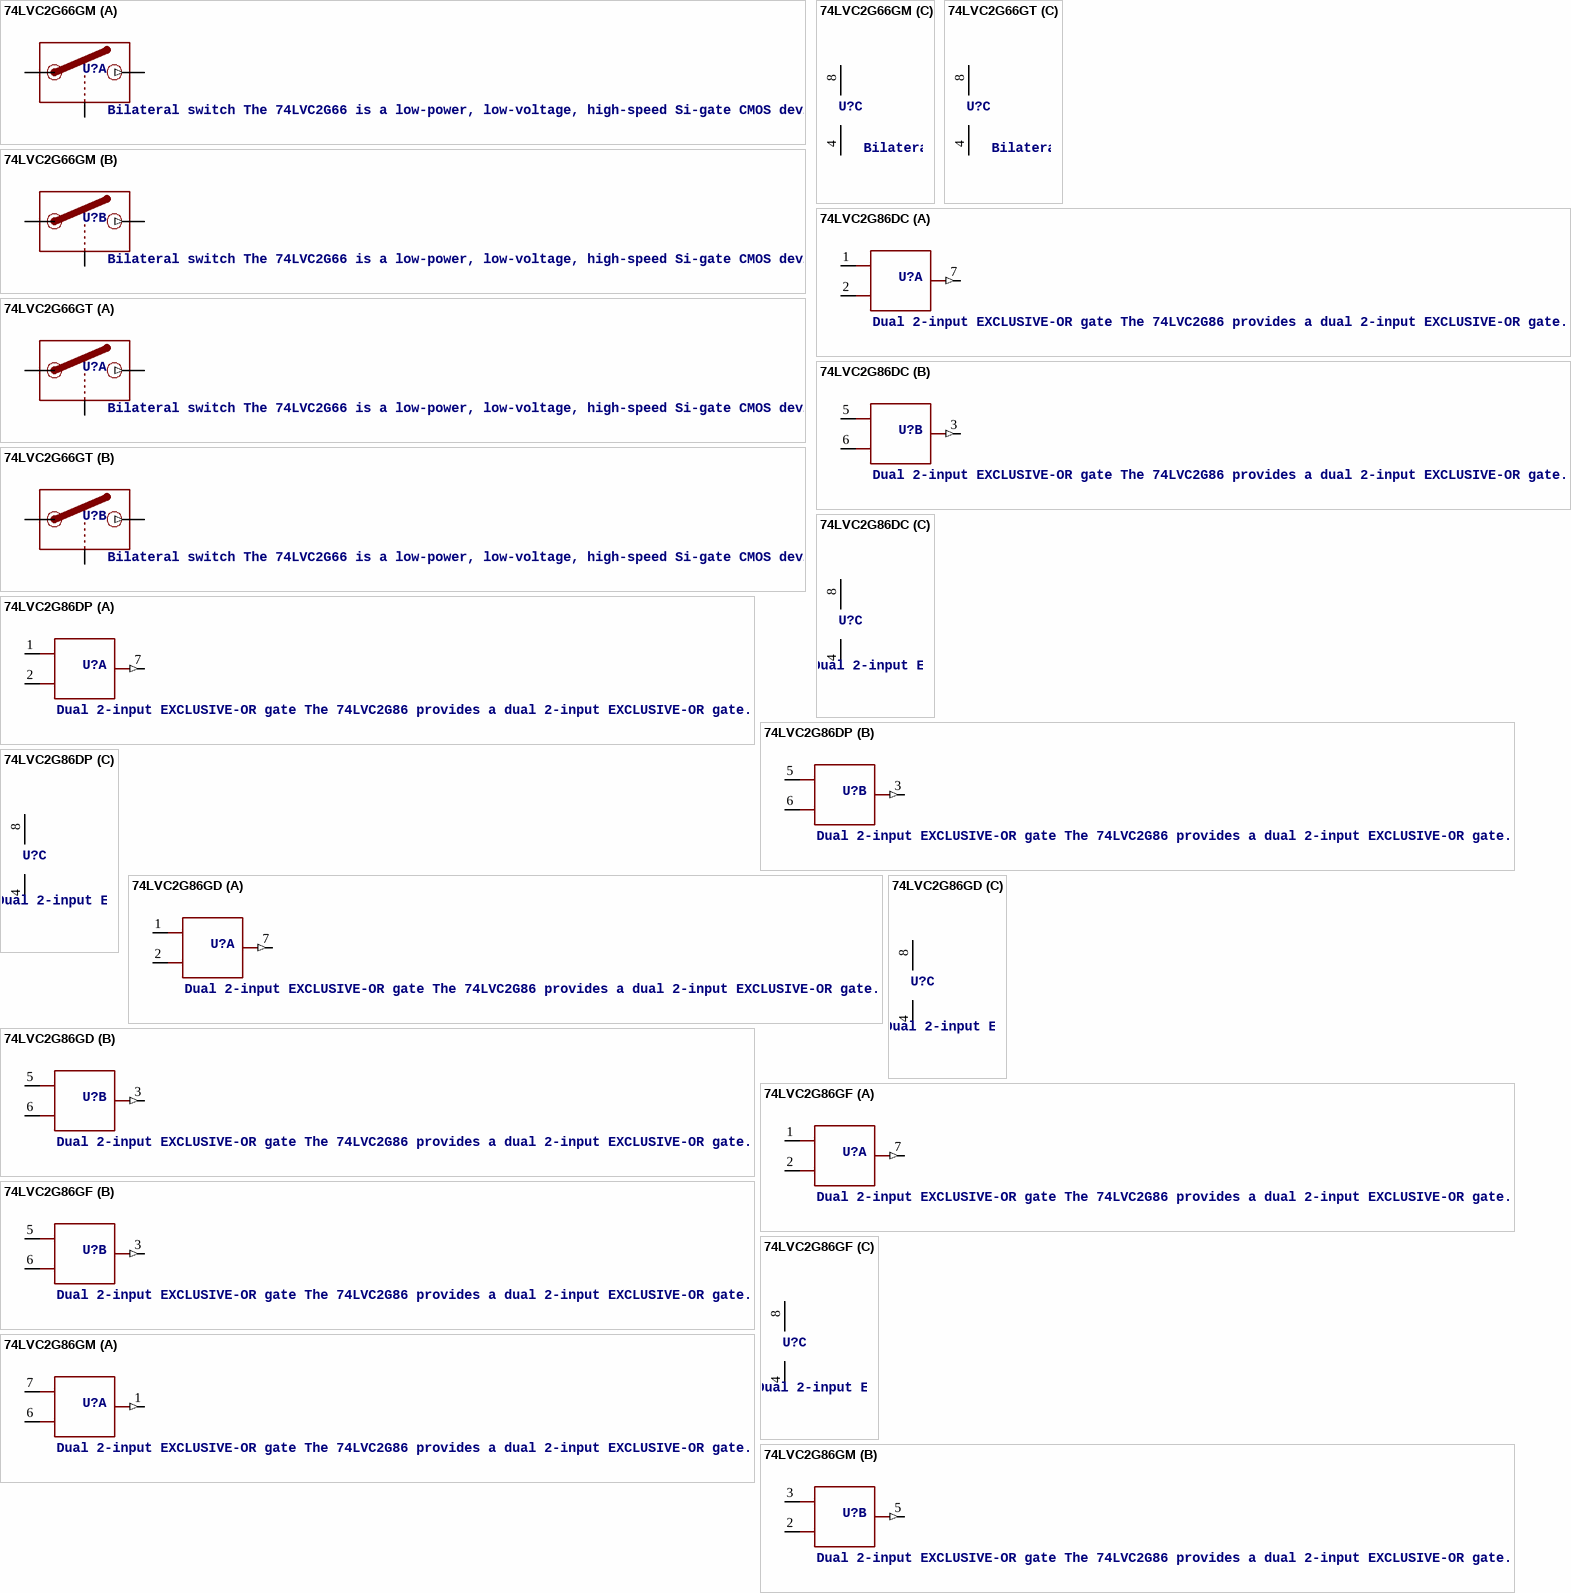
[diagram p24: symbols 74LVC2G66GM to 74LVC2G86GM]

## 74LVC2G66GM
designator U?, comment Bilateral switch The 74LVC2G66 is a low-power, low-voltage, high-speed Si-gate CMOS device. The 74LVC2G66 provides two single pole, single-throw analog switch functions. Each switch has two input/output terminals (nY and nZ) and an active HIGH enable input (nE). When nE is LOW, the analog switch is turned off. Schmitt trigger action at the enable inputs makes the circuit tolerant of slower input rise and fall times across the entire VCC range from 1.65 V to 5.5 V.    AAL Eindhoven MK
footprint SOT902-1/2/3
part A pins: 1 EN, 6 Z (out), 7 Y
part B pins: 2 Z (out), 3 Y, 5 EN
part C pins: 4 GND (power), 8 VCC (power)

## 74LVC2G66GT
designator U?, comment Bilateral switch The 74LVC2G66 is a low-power, low-voltage, high-speed Si-gate CMOS device. The 74LVC2G66 provides two single pole, single-throw analog switch functions. Each switch has two input/output terminals (nY and nZ) and an active HIGH enable input (nE). When nE is LOW, the analog switch is turned off. Schmitt trigger action at the enable inputs makes the circuit tolerant of slower input rise and fall times across the entire VCC range from 1.65 V to 5.5 V.    AAL Eindhoven MK
footprint SOT833-1
part A pins: 1 Y, 2 Z (out), 7 EN
part B pins: 3 EN, 5 Y, 6 Z (out)
part C pins: 4 GND (power), 8 VCC (power)

## 74LVC2G86DC
designator U?, comment Dual 2-input EXCLUSIVE-OR gate The 74LVC2G86 provides a dual 2-input EXCLUSIVE-OR gate. Inputs can be driven from either 3.3 V or 5 V devices. This feature allows the use of these devices as translators in a mixed 3.3 V and 5 V environment. This device is fully specified for partial power-down applications using IOFF. The IOFF circuitry disables the output, preventing the damaging backflow current through the device when it is powered down.    AAL Eindhoven MK
footprint SOT765
part A pins: 1 A, 2 B, 7 Y (out)
part B pins: 3 Y (out), 5 A, 6 B
part C pins: 4 GND (power), 8 VCC (power)

## 74LVC2G86DP
designator U?, comment Dual 2-input EXCLUSIVE-OR gate The 74LVC2G86 provides a dual 2-input EXCLUSIVE-OR gate. Inputs can be driven from either 3.3 V or 5 V devices. This feature allows the use of these devices as translators in a mixed 3.3 V and 5 V environment. This device is fully specified for partial power-down applications using IOFF. The IOFF circuitry disables the output, preventing the damaging backflow current through the device when it is powered down.    AAL Eindhoven MK
footprint SOT505-2
part A pins: 1 A, 2 B, 7 Y (out)
part B pins: 3 Y (out), 5 A, 6 B
part C pins: 4 GND (power), 8 VCC (power)

## 74LVC2G86GD
designator U?, comment Dual 2-input EXCLUSIVE-OR gate The 74LVC2G86 provides a dual 2-input EXCLUSIVE-OR gate. Inputs can be driven from either 3.3 V or 5 V devices. This feature allows the use of these devices as translators in a mixed 3.3 V and 5 V environment. This device is fully specified for partial power-down applications using IOFF. The IOFF circuitry disables the output, preventing the damaging backflow current through the device when it is powered down.    AAL Eindhoven MK
footprint SOT996-2/3
part A pins: 1 A, 2 B, 7 Y (out)
part B pins: 3 Y (out), 5 A, 6 B
part C pins: 4 GND (power), 8 VCC (power)

## 74LVC2G86GF
designator U?, comment Dual 2-input EXCLUSIVE-OR gate The 74LVC2G86 provides a dual 2-input EXCLUSIVE-OR gate. Inputs can be driven from either 3.3 V or 5 V devices. This feature allows the use of these devices as translators in a mixed 3.3 V and 5 V environment. This device is fully specified for partial power-down applications using IOFF. The IOFF circuitry disables the output, preventing the damaging backflow current through the device when it is powered down.    AAL Eindhoven MK
footprint SOT1089-1
part A pins: 1 A, 2 B, 7 Y (out)
part B pins: 3 Y (out), 5 A, 6 B
part C pins: 4 GND (power), 8 VCC (power)

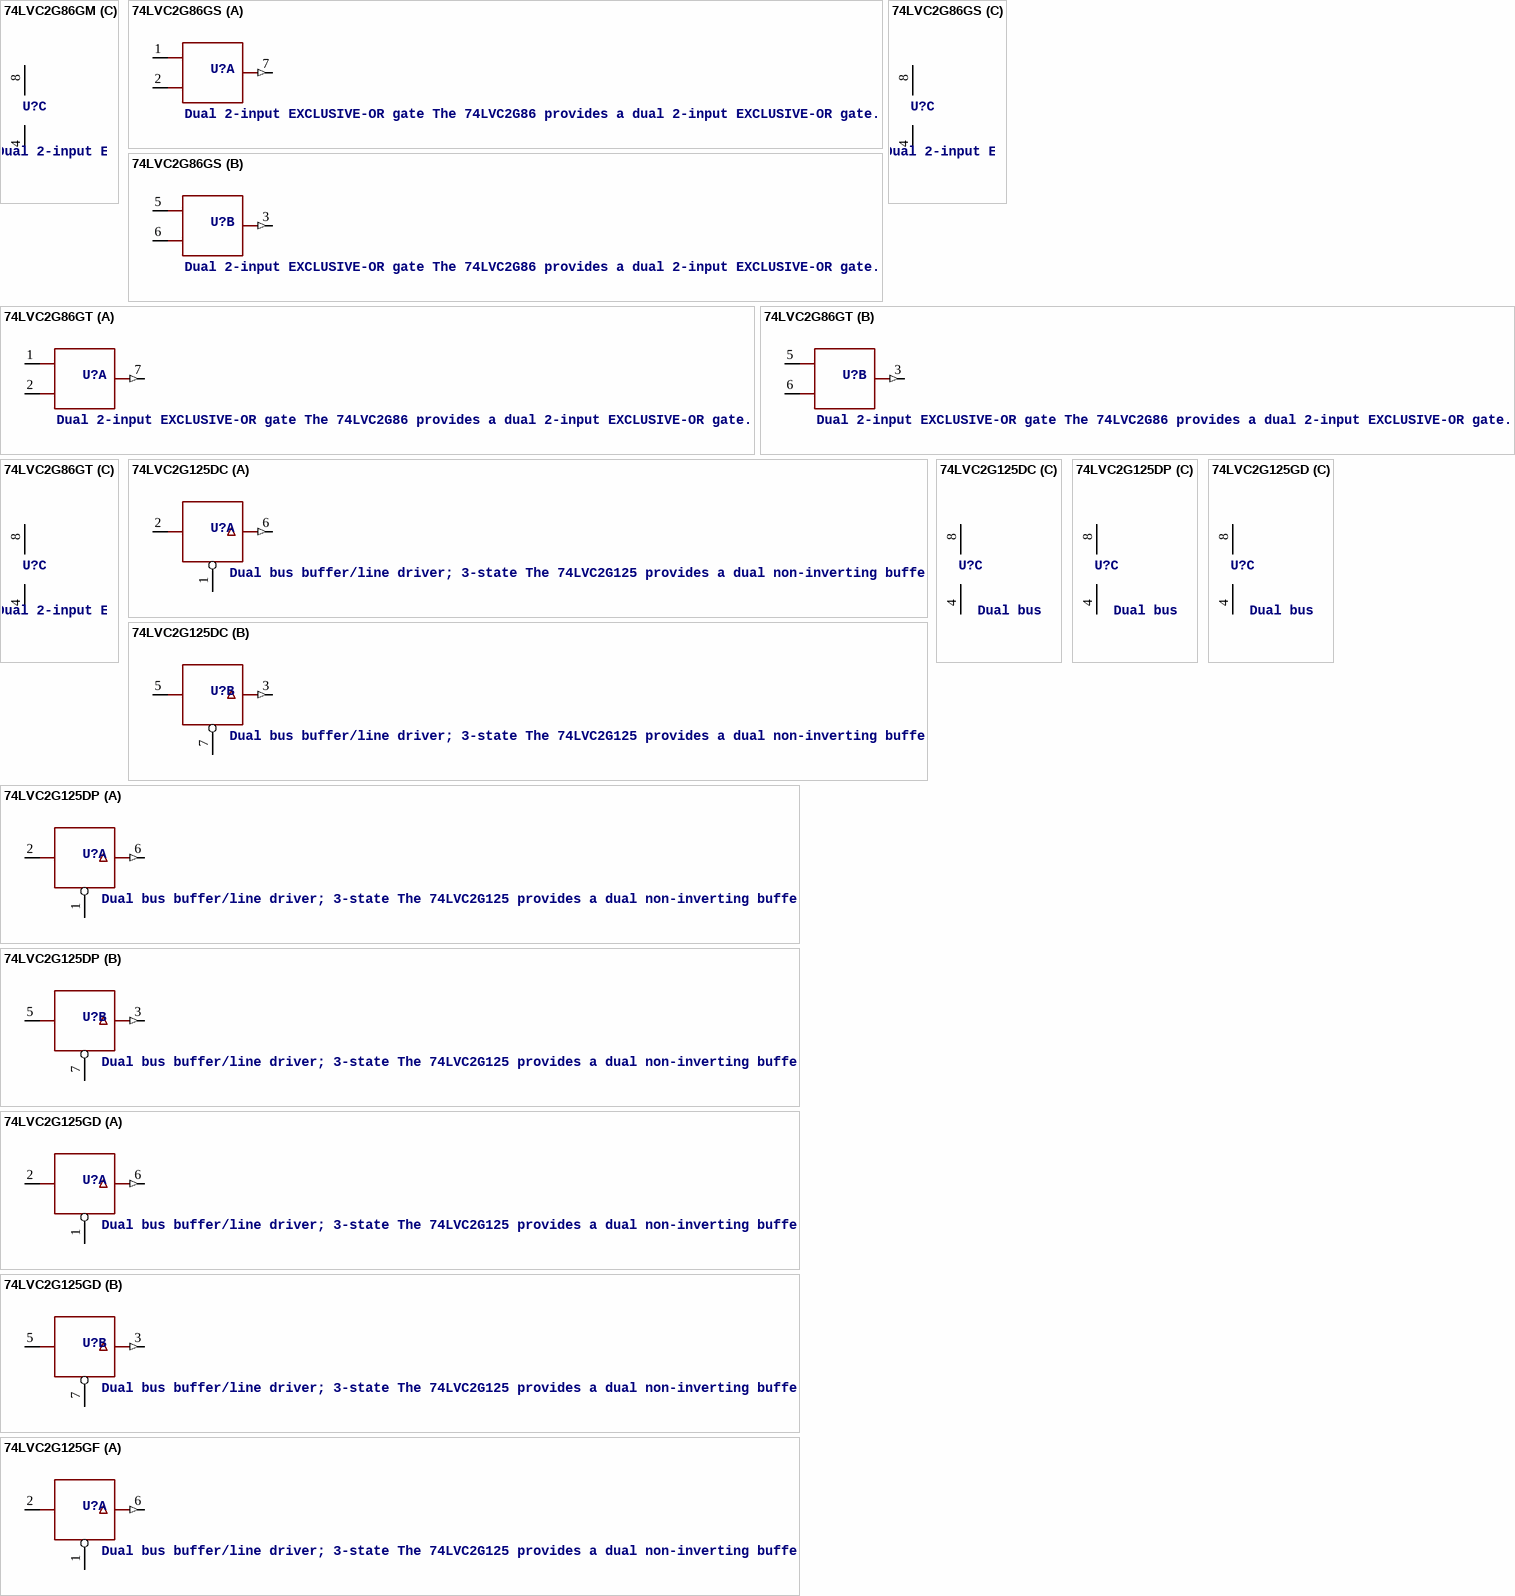
[diagram p25: symbols 74LVC2G86GM to 74LVC2G125GF]

## 74LVC2G86GM
designator U?, comment Dual 2-input EXCLUSIVE-OR gate The 74LVC2G86 provides a dual 2-input EXCLUSIVE-OR gate. Inputs can be driven from either 3.3 V or 5 V devices. This feature allows the use of these devices as translators in a mixed 3.3 V and 5 V environment. This device is fully specified for partial power-down applications using IOFF. The IOFF circuitry disables the output, preventing the damaging backflow current through the device when it is powered down.    AAL Eindhoven MK
footprint SOT902-1/2/3
part A pins: 1 Y (out), 6 B, 7 A
part B pins: 2 B, 3 A, 5 Y (out)
part C pins: 4 GND (power), 8 VCC (power)

## 74LVC2G86GS
designator U?, comment Dual 2-input EXCLUSIVE-OR gate The 74LVC2G86 provides a dual 2-input EXCLUSIVE-OR gate. Inputs can be driven from either 3.3 V or 5 V devices. This feature allows the use of these devices as translators in a mixed 3.3 V and 5 V environment. This device is fully specified for partial power-down applications using IOFF. The IOFF circuitry disables the output, preventing the damaging backflow current through the device when it is powered down.    AAL Eindhoven MK
footprint SOT1203
part A pins: 1 A, 2 B, 7 Y (out)
part B pins: 3 Y (out), 5 A, 6 B
part C pins: 4 GND (power), 8 VCC (power)

## 74LVC2G86GT
designator U?, comment Dual 2-input EXCLUSIVE-OR gate The 74LVC2G86 provides a dual 2-input EXCLUSIVE-OR gate. Inputs can be driven from either 3.3 V or 5 V devices. This feature allows the use of these devices as translators in a mixed 3.3 V and 5 V environment. This device is fully specified for partial power-down applications using IOFF. The IOFF circuitry disables the output, preventing the damaging backflow current through the device when it is powered down.    AAL Eindhoven MK
footprint SOT833-1
part A pins: 1 A, 2 B, 7 Y (out)
part B pins: 3 Y (out), 5 A, 6 B
part C pins: 4 GND (power), 8 VCC (power)

## 74LVC2G125DC
designator U?, comment Dual bus buffer/line driver; 3-state The 74LVC2G125 provides a dual non-inverting buffer/line driver with 3-state output. The 3-state output is controlled by the output enable input (pin nOE). A HIGH-level at pin nOE causes the output to assume a high-impedance OFF-state. Schmitt trigger action at all inputs makes the circuit highly tolerant of slower input rise and fall times. Inputs can be driven from either 3.3 V or 5 V devices. This feature allows the use of these devices as translators in a mixed 3.3 V and 5 V environment. This device is fully specified for partial power-down applications using IOFF. The IOFF circuitry disables the output, preventing a damaging backflow current through the device when it is powered down.    AAL Eindhoven MK
footprint SOT765
part A pins: 1 !OE, 2 A, 6 Y (out)
part B pins: 3 Y (out), 5 A, 7 !OE
part C pins: 4 GND (power), 8 VCC (power)

## 74LVC2G125DP
designator U?, comment Dual bus buffer/line driver; 3-state The 74LVC2G125 provides a dual non-inverting buffer/line driver with 3-state output. The 3-state output is controlled by the output enable input (pin nOE). A HIGH-level at pin nOE causes the output to assume a high-impedance OFF-state. Schmitt trigger action at all inputs makes the circuit highly tolerant of slower input rise and fall times. Inputs can be driven from either 3.3 V or 5 V devices. This feature allows the use of these devices as translators in a mixed 3.3 V and 5 V environment. This device is fully specified for partial power-down applications using IOFF. The IOFF circuitry disables the output, preventing a damaging backflow current through the device when it is powered down.    AAL Eindhoven MK
footprint SOT505-2
part A pins: 1 !OE, 2 A, 6 Y (out)
part B pins: 3 Y (out), 5 A, 7 !OE
part C pins: 4 GND (power), 8 VCC (power)

## 74LVC2G125GD
designator U?, comment Dual bus buffer/line driver; 3-state The 74LVC2G125 provides a dual non-inverting buffer/line driver with 3-state output. The 3-state output is controlled by the output enable input (pin nOE). A HIGH-level at pin nOE causes the output to assume a high-impedance OFF-state. Schmitt trigger action at all inputs makes the circuit highly tolerant of slower input rise and fall times. Inputs can be driven from either 3.3 V or 5 V devices. This feature allows the use of these devices as translators in a mixed 3.3 V and 5 V environment. This device is fully specified for partial power-down applications using IOFF. The IOFF circuitry disables the output, preventing a damaging backflow current through the device when it is powered down.    AAL Eindhoven MK
footprint SOT996-2/3
part A pins: 1 !OE, 2 A, 6 Y (out)
part B pins: 3 Y (out), 5 A, 7 !OE
part C pins: 4 GND (power), 8 VCC (power)

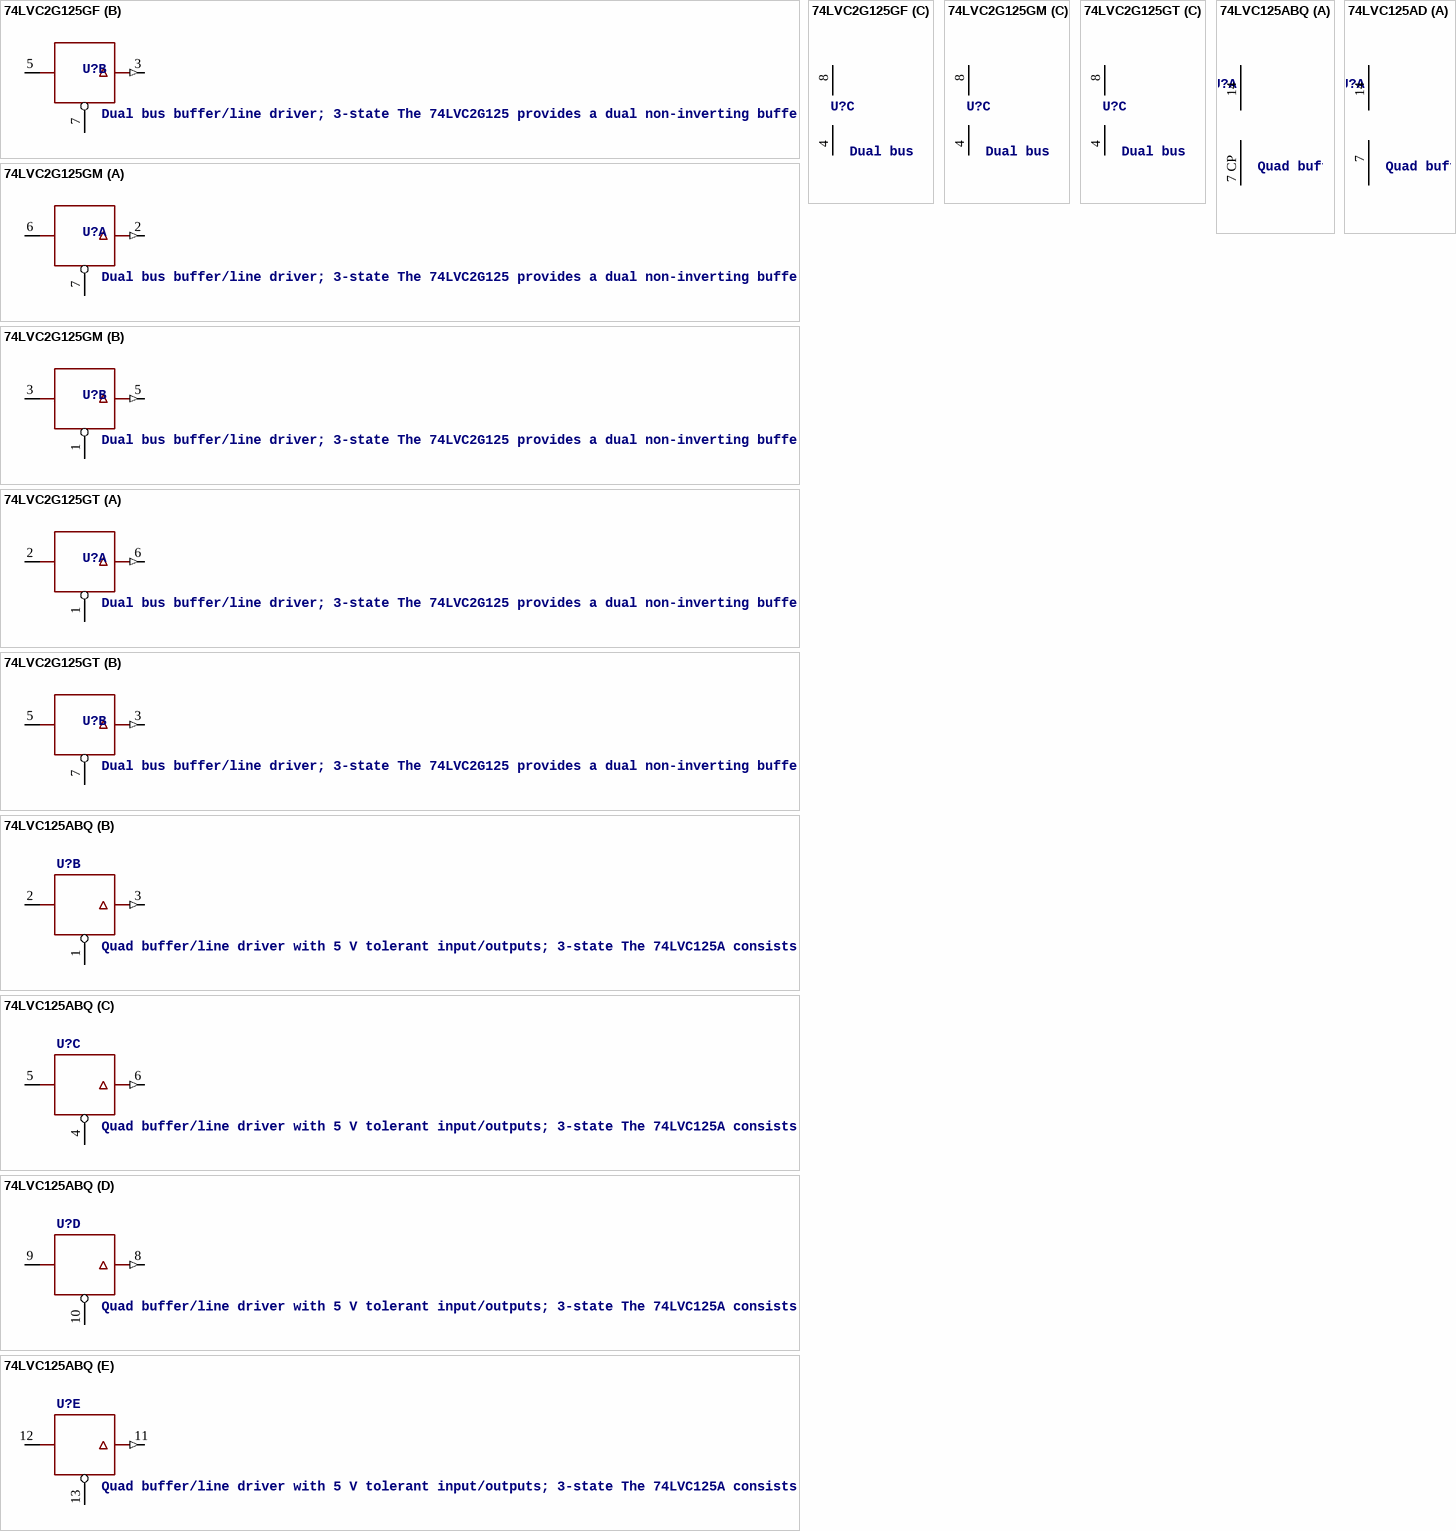
[diagram p26: symbols 74LVC2G125GF to 74LVC125AD]

## 74LVC2G125GF
designator U?, comment Dual bus buffer/line driver; 3-state The 74LVC2G125 provides a dual non-inverting buffer/line driver with 3-state output. The 3-state output is controlled by the output enable input (pin nOE). A HIGH-level at pin nOE causes the output to assume a high-impedance OFF-state. Schmitt trigger action at all inputs makes the circuit highly tolerant of slower input rise and fall times. Inputs can be driven from either 3.3 V or 5 V devices. This feature allows the use of these devices as translators in a mixed 3.3 V and 5 V environment. This device is fully specified for partial power-down applications using IOFF. The IOFF circuitry disables the output, preventing a damaging backflow current through the device when it is powered down.    AAL Eindhoven MK
footprint SOT1089-1
part A pins: 1 !OE, 2 A, 6 Y (out)
part B pins: 3 Y (out), 5 A, 7 !OE
part C pins: 4 GND (power), 8 VCC (power)

## 74LVC2G125GM
designator U?, comment Dual bus buffer/line driver; 3-state The 74LVC2G125 provides a dual non-inverting buffer/line driver with 3-state output. The 3-state output is controlled by the output enable input (pin nOE). A HIGH-level at pin nOE causes the output to assume a high-impedance OFF-state. Schmitt trigger action at all inputs makes the circuit highly tolerant of slower input rise and fall times. Inputs can be driven from either 3.3 V or 5 V devices. This feature allows the use of these devices as translators in a mixed 3.3 V and 5 V environment. This device is fully specified for partial power-down applications using IOFF. The IOFF circuitry disables the output, preventing a damaging backflow current through the device when it is powered down.    AAL Eindhoven MK
footprint SOT902-1/2/3
part A pins: 2 Y (out), 6 A, 7 !OE
part B pins: 1 !OE, 3 A, 5 Y (out)
part C pins: 4 GND (power), 8 VCC (power)